# Altium schematic symbol library T5_Turn_Down_For_Watt.SchLib: 71 symbols (part 1 of 3)
Pins are listed as number, name and electrical type; pins without a type are passive.

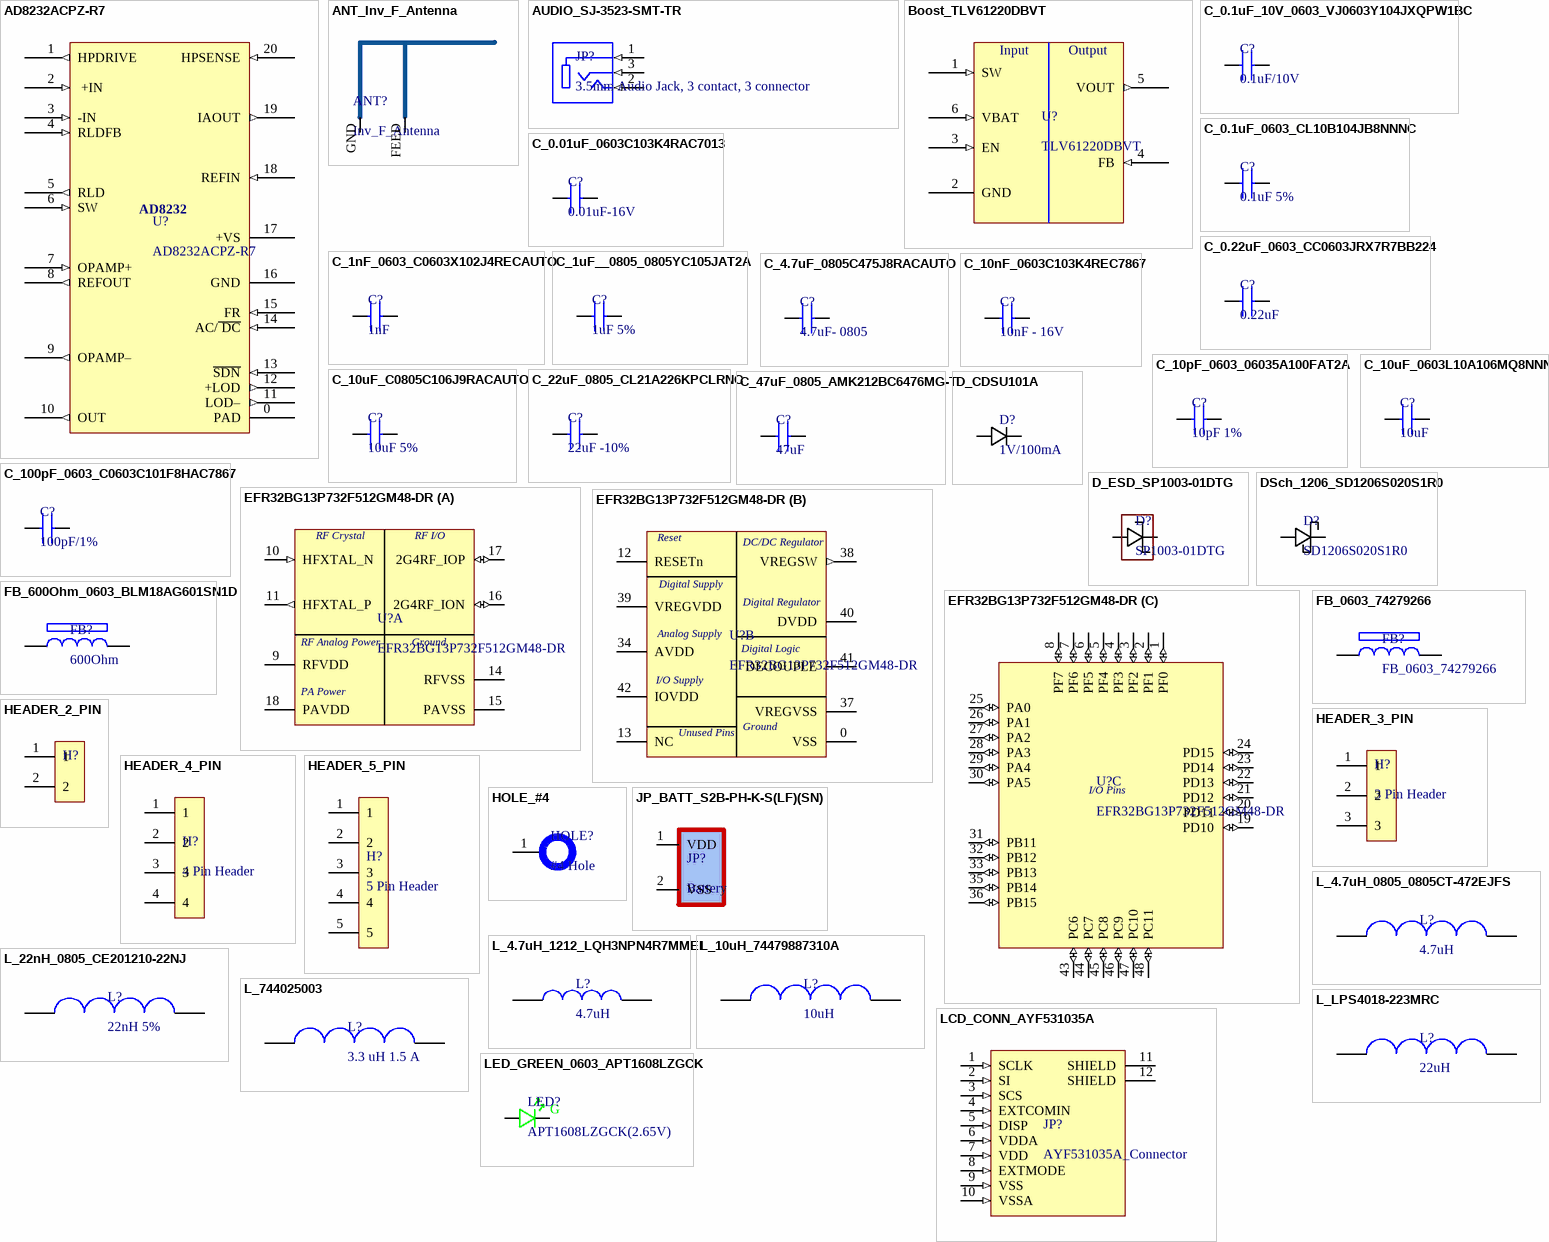
[diagram p0: symbols AD8232ACPZ-R7 to LED_GREEN_0603_APT1608LZGCK]

## AD8232ACPZ-R7
designator U?
IC AFE HEART MONITOR 20LFCSP; Manufacturer: Analog Devices; Common Mode Rejection Ratio: 80dB; Nominal Supply Current: 170uA; Input Offset Voltage (Vos): 3mV; Input Bias Current: 50pA; Power Supply Rejection Ratio (PSRR): 90dB; Min Supply Voltage: 2V; Max Supply Voltage: 3.5V; Supplier 1: Digi-Key; Manufacturer Part Number: AD8232ACPZ-R7; RoHS: Yes; Category: Amplifiers - Op Amps, Buffer, Instrumentation; Stock 1: 1084; Pricing 1: 1=5.17000, 10=4.64200, 25=4.38840, 100=3.80330, 250=3.60824, 500=3.23766 (USD); Mount: Surface Mount; Case/Package: LFCSP EP; Number of Pins: 20; Contact Plating: Tin,Matte; Min Operating Temperature: -40°C; Max Operating Temperature: 85°C; Packaging: Tape and Reel; Package Quantity: 1500; Operating Supply Current: 170uA; Series: -; Supply Current: 170uA; REACH SVHC: No SVHC; Lead Free: Contains Lead; RoHS Compliant: Yes; ComponentLink1URL: https://datasheet.ciiva.com/6579/ad8232-6579751.pdf?src-supplier=Digi-Key; ComponentLink1Description: https://datasheet.ciiva.com/6579/ad8232-6579751.pdf?src-supplier=Digi-Key; ComponentLink2URL: https://datasheet.ciiva.com/6579/ad8232-6579754.pdf?src-supplier=Digi-Key; ComponentLink2Description: https://datasheet.ciiva.com/6579/ad8232-6579754.pdf?src-supplier=Digi-Key; ComponentLink3URL: https://datasheet.ciiva.com/6579/ad8232-6579770.pdf?src-supplier=Digi-Key; ComponentLink3Description: https://datasheet.ciiva.com/6579/ad8232-6579770.pdf?src-supplier=Digi-Key
footprint QFN50P400X400X100-21N (AD8232-ECG Front End 20-LFCSP (4x4))
pins: 0 PAD (power) "Thermal Pad", 1 HPDRIVE (out) "High-Pass Driver Output", 2  +IN (in) "Instrumentation Amplifier Positive Input. +IN is typically connected to the left arm (LA) electrode", 3 -IN (in) "Instrumentation Amplifier Negative Input. −IN is typically connected to the right arm (RA) electrode.", 4 RLDFB (in) "Right Leg Drive Feedback Input.", 5 RLD (out) "Right Leg Drive Output.", 6 SW (in) "Fast Restore Switch Terminal.", 7 OPAMP+ (in) "Operational Amplifier Noninverting Input.", 8 REFOUT (out) "Reference Buffer Output.", 9 OPAMP– (out) "Operational Amplifier Inverting Input.", 10 OUT (out) "Operational Amplifier Output. The fully conditioned heart rate signal is present at this output.", 11 LOD– (out) "Leads Off Comparator Output.", 12  +LOD (out) "Leads Off Comparator Output.", 13 ~{SDN} (in) "Shutdown Control Input.", 14 AC/~{ DC} (in) "Leads Off Mode Control Input.", 15 FR (in) "Fast Restore Control Input", 16 GND (power) "Power Supply Ground.", 17  +VS "Power Supply Terminal.", 18 REFIN (in) "Reference Buffer Input.", 19 IAOUT (out) "Instrumentation Amplifier Output Terminal.", 20 HPSENSE (in) "High-Pass Sense Input for Instrumentation Amplifier."
text: AD8232

## ANT_Inv_F_Antenna
designator ANT?, comment Inv_F_Antenna  (net tie, no BOM)
footprint INV_F_ANTENNA
pins: FEED, GND

## AUDIO_SJ-3523-SMT-TR
designator JP?, comment 3.5mm Audio Jack, 3 contact, 3 connector
3.5 mm, Stereo, Right Angle, Surface Mount (SMT), Audio Jack Connector; Manufacturer: CUI; Manufacturer Part Number: SJ-3523-SMT-TR; Gender: Female; Shielding: Unshielded; Current Rating: 1A; Number of Conductors: 3; Number of Ports: 1; Voltage Rating: 12V; Supplier 1: Digi-Key; RoHS: Yes; Category: Connectors; Stock 1: 96703; Pricing 1: 1=1.010000, 10=0.856000, 25=0.821200, 50=0.803800, 100=0.768800, 250=0.698920, 500=0.629020 (USD); Mount: Surface Mount; Contact Plating: Silver; Contact Material: Copper Alloy; Color: Black; Housing Material: Polyamide; Weight: 0.037038oz; Packaging: Cut Tape; Termination: SMD/SMT; Package Quantity: 1000; Connector Type: Jack; Orientation: Horizontal; Number of Positions: 3; Lead Free: Lead Free; ComponentLink1URL: https://datasheet.ciiva.com/7356/sj-352x-smt-series-7356553.pdf?src-supplier=Digi-Key; ComponentLink1Description: https://datasheet.ciiva.com/7356/sj-352x-smt-series-7356553.pdf?src-supplier=Digi-Key; ComponentLink2URL: https://datasheet.ciiva.com/7356/sj-352x-smt-series-7356569.pdf?src-supplier=Digi-Key; ComponentLink2Description: https://datasheet.ciiva.com/7356/sj-352x-smt-series-7356569.pdf?src-supplier=Digi-Key
footprint 3.5mm_Audio_Jack_SJ-3523-SMT-TR (3.50mm (0.141", 1/8", Mini Plug) - Headphone Phone Jack Stereo (3 Conductor, TRS) Connector Solder)
pins: 1 Sleeve (in), 2 Tip (in), 3 Ring (in)

## Boost_TLV61220DBVT
designator U?, comment TLV61220DBVT
0.7V Low Input Voltage Step-Up Converter with 5uA Iq 6-SOT-23 -40 to 85; Manufacturer: Texas Instruments; Number of Outputs: 1; Output Voltage: 5.5V; Efficiency: 95%; Min Input Voltage: 700mV; Output Current: 220mA; Min Output Voltage: 1.8V; Synchronous Rectifier: Yes; Max Output Current: 200mA; Topology: Boost; Output Type: Adjustable; Output Configuration: Positive; Supplier 1: Digi-Key; Manufacturer Part Number: TLV61220DBVT; RoHS: Yes; Category: Voltage Regulators - Switching; Mount: Surface Mount; Case/Package: SOT-23-6; Number of Pins: 6; Min Operating Temperature: -40°C; Max Operating Temperature: 85°C; Packaging: Tape and Reel; Max Input Voltage: 5.5V; Package Quantity: 250; Max Output Voltage: 5.5V; Quiescent Current: 5uA; Series: -; Length: 3.05mm; Width: 1.75mm; Height: 1.3mm; Depth: 1.75mm; Radiation Hardening: No; Lead Free: Lead Free; RoHS Compliant: Yes; ComponentLink1URL: https://datasheet.ciiva.com/12221/slvsb53-118569-12221283.pdf?src-supplier=Mouser; ComponentLink1Description: https://datasheet.ciiva.com/12221/slvsb53-118569-12221283.pdf?src-supplier=Mouser; ComponentLink2URL: https://datasheet.ciiva.com/14273/tlv61220-14273200.pdf?src-supplier=Avnet; ComponentLink2Description: https://datasheet.ciiva.com/14273/tlv61220-14273200.pdf?src-supplier=Avnet; ComponentLink3URL: https://datasheet.ciiva.com/6604/tlv61220-6604104.pdf?src-supplier=Digi-Key; ComponentLink3Description: https://datasheet.ciiva.com/6604/tlv61220-6604104.pdf?src-supplier=Digi-Key; ComponentLink4URL: https://datasheet.ciiva.com/29894/tlv61220-29894792.pdf?src-supplier=Avnet; ComponentLink4Description: https://datasheet.ciiva.com/29894/tlv61220-29894792.pdf?src-supplier=Avnet
footprint SOT95P280X145-6N (SOT23, 6-Leads, Body 2.90x2.80mm, Pitch 0.95mm, IPC Medium Density)
pins: 1 SW (in) "Boost and rectifying switch input", 2 GND (power) "IC ground connection for logic and power", 3 EN (in) "Enable input (VBAT enabled, GND disabled)", 4 FB (in) "Voltage feedback for programming the output voltage", 5 VOUT (out) "Boost converter output", 6 VBAT (in) "Supply voltage"
text: Input; Output

## C_0.1uF_10V_0603_VJ0603Y104JXQPW1BC
designator C?, comment 0.1uF/10V
0603 0.1 uF 10 V ±5 % Tolerance X7R SMT Multilayer Ceramic Chip Capacitor; Manufacturer: Vishay Vitramon; Manufacturer Part Number: VJ0603Y104JXQPW1BC; Dielectric Material: Tantalum; Capacitance: 100nF; Tolerance: 5%; Voltage Rating (DC): 10V; Supplier 1: Mouser; RoHS: Yes; Category: Ceramic Capacitors; Stock 1: 24686; Pricing 1: 1=0.19000, 10=0.07900, 50=0.07900, 100=0.06700, 1000=0.04100, 10000=0.03400 (USD); Mount: Surface Mount; Case/Package: 0603; Case Code (Imperial): 0603; Case Code (Metric): 1608; Min Operating Temperature: -55°C; Max Operating Temperature: 125°C; Packaging: Tape and Reel; Package Quantity: 15000; Dielectric: X7R; Termination: SMD/SMT; Series: VJ W1BC; Construction: Flat; Length: 1.6mm; Width: 0.8mm; Height: 0.95mm; Depth: 0.8mm; Lead Free: Lead Free; RoHS Compliant: Yes; ComponentLink1URL: http://www.farnell.com/datasheets/2620235.pdf?src-supplier=Farnell; ComponentLink1Description: http://www.farnell.com/datasheets/2620235.pdf?src-supplier=Farnell; ComponentLink2URL: http://www.mouser.com/ds/2/427/vjw1bcbascomseries-223529.pdf?src-supplier=Mouser; ComponentLink2Description: http://www.mouser.com/ds/2/427/vjw1bcbascomseries-223529.pdf?src-supplier=Mouser; ComponentLink3URL: https://www.vishay.com/docs/28548/vjw1bcbascomseries.pdf?src-supplier=Digi-Key; ComponentLink3Description: https://www.vishay.com/docs/28548/vjw1bcbascomseries.pdf?src-supplier=Digi-Key; ComponentLink4URL: http://www.vishay.com/docs/28548/vjw1bcbascomseries.pdf?src-supplier=Avnet; ComponentLink4Description: http://www.vishay.com/docs/28548/vjw1bcbascomseries.pdf?src-supplier=Avnet; ComponentLink5URL: http://www.farnell.com/datasheets/2620235.pdf?src-supplier=Element14; ComponentLink5Description: http://www.farnell.com/datasheets/2620235.pdf?src-supplier=Element14; ComponentLink6URL: http://www.farnell.com/datasheets/2620235.pdf?src-supplier=Newark; ComponentLink6Description: http://www.farnell.com/datasheets/2620235.pdf?src-supplier=Newark
footprint CAP_0603_1.4mm
pins: 1, 2

## C_0.1uF_0603_CL10B104JB8NNNC
designator C?, comment 0.1uF 5%
CL10 Series 0.1 uF 50 V ±5 % Tolerance X7R SMT Multilayer Ceramic Capacitor; Manufacturer: Samsung; Manufacturer Part Number: CL10B104JB8NNNC; Capacitance: 100nF; Voltage Rating: 50V; Supplier 1: Digi-Key; RoHS: Yes; Category: Ceramic Capacitors; Stock 1: 1126013; Pricing 1: 1=0.10000, 10=0.03900, 50=0.02120, 100=0.01740, 500=0.01240, 1000=0.00975 (USD); Mount: Surface Mount; Case/Package: 0603; Case Code (Metric): 1608; Case Code (Imperial): 0603; Material: Ceramic; Contact Plating: Tin; Min Operating Temperature: -55°C; Max Operating Temperature: 125°C; Tolerance: 5%; Packaging: Tape and Reel; Package Quantity: 1; Dielectric: X7R; Voltage: 50V; Series: CL; Construction: Flat; Length: 1.6mm; Width: 0.031inch; Height: 0.8mm; Thickness: 0.035inch; Depth: 0.8mm; Radiation Hardening: No; RoHS Compliant: Yes; ComponentLink1URL: https://datasheet.ciiva.com/25793/cl10b104jb8nnnc-25793394.pdf?src-supplier=Digi-Key; ComponentLink1Description: https://datasheet.ciiva.com/25793/cl10b104jb8nnnc-25793394.pdf?src-supplier=Digi-Key; ComponentLink2URL: https://datasheet.ciiva.com/16498/cl10b104jb8nnnc-16498485.pdf?src-supplier=Future+Electronics; ComponentLink2Description: https://datasheet.ciiva.com/16498/cl10b104jb8nnnc-16498485.pdf?src-supplier=Future+Electronics; ComponentLink3URL: https://datasheet.ciiva.com/26838/getdatasheetpartid-359321-26838402.pdf?src-supplier=Verical; ComponentLink3Description: https://datasheet.ciiva.com/26838/getdatasheetpartid-359321-26838402.pdf?src-supplier=Verical; ComponentLink4URL: https://datasheet.ciiva.com/29199/456613-da-01-en-vs-kondensator-0603-29199008.pdf?src-supplier=Conrad; ComponentLink4Description: https://datasheet.ciiva.com/29199/456613-da-01-en-vs-kondensator-0603-29199008.pdf?src-supplier=Conrad
footprint CAP_0603_1.4mm
pins: 1, 2

## C_0.01uF_0603C103K4RAC7013
designator C?, comment 0.01uF-16V
0603 .01UF 10% X7R 1; Manufacturer: KEMET; Manufacturer Part Number: C0603C103K4RAC7013; Dielectric Material: Ceramic; Capacitance: 10nF; Voltage Rating (DC): 16V; Supplier 1: Digi-Key; RoHS: Yes; Category: Ceramic Capacitors; Stock 1: 31105; Pricing 1: 1=0.11000, 10=0.08000, 50=0.04560, 100=0.03780, 500=0.02650, 1000=0.02193 (USD); Mount: Surface Mount; Case/Package: 0603; Min Operating Temperature: -55°C; Max Operating Temperature: 125°C; Tolerance: 10%; Dielectric: X7R; Construction: Flat; Length: 1.6mm; Height: 0.8mm; Depth: 0.8mm; Radiation Hardening: No; RoHS Compliant: Yes; ComponentLink1URL: http://capacitoredge.kemet.com/capedge2/DataSheet?pn=C0603C103K4RAC7013&src-supplier=Avnet; ComponentLink1Description: http://capacitoredge.kemet.com/capedge2/DataSheet?pn=C0603C103K4RAC7013&src-supplier=Avnet; ComponentLink2URL: https://api.kemet.com/component-edge/download/datasheet/C0603C103K4RAC7013.pdf?src-supplier=Digi-Key; ComponentLink2Description: https://api.kemet.com/component-edge/download/datasheet/C0603C103K4RAC7013.pdf?src-supplier=Digi-Key
footprint CAP_0603_1.4mm
pins: 1, 2

## C_0.22uF_0603_CC0603JRX7R7BB224
designator C?, comment 0.22uF
0603 0.22 uF 16 V ±5% Tolerance X7R Multilayer Ceramic Capacitor; Manufacturer: Yageo; Manufacturer Part Number: CC0603JRX7R7BB224; Capacitance: 220nF; Voltage Rating (DC): 16V; Supplier 1: Digi-Key; RoHS: Yes; Category: Ceramic Capacitors; Stock 1: 87620; Pricing 1: 1=0.13000, 10=0.09000, 50=0.05120, 100=0.04240, 500=0.02972, 1000=0.02461 (USD); Mount: Surface Mount; Case/Package: 0603; Case Code (Imperial): 0603; Case Code (Metric): 1608; Weight: 7.1E-05oz; Min Operating Temperature: -55°C; Max Operating Temperature: 125°C; Tolerance: 5%; Packaging: Tape and Reel; Dielectric: X7R; Voltage Rating: 16V; Termination: SMD/SMT; Resistor Type: Ceramic; Series: CC; Length: 0.063inch; Width: 0.031inch; Thickness: 0.035inch; Depth: 0.8mm; Lead Free: Lead Free; Halogen Free: Halogen Free; RoHS Compliant: Yes; ComponentLink1URL: http://www.mouser.com/ds/2/447/Yageo_UPY-GP_NP0_16V-to-50V_9-358835.pdf?src-supplier=Mouser; ComponentLink1Description: http://www.mouser.com/ds/2/447/Yageo_UPY-GP_NP0_16V-to-50V_9-358835.pdf?src-supplier=Mouser; ComponentLink2URL: http://www.yageo.com/exep/pages/download/literatures/ProductSelectionGuide%202014_Final_2.pdf?src-supplier=Digi-Key; ComponentLink2Description: http://www.yageo.com/exep/pages/download/literatures/ProductSelectionGuide%202014_Final_2.pdf?src-supplier=Digi-Key; ComponentLink3URL: http://www.yageo.com/documents/recent/UPY-GPHC_X7R_6.3V-to-50V_18.pdf?src-supplier=Digi-Key; ComponentLink3Description: http://www.yageo.com/documents/recent/UPY-GPHC_X7R_6.3V-to-50V_18.pdf?src-supplier=Digi-Key
footprint CAP_0603_1.4mm
pins: 1, 2

## C_1nF_0603_C0603X102J4RECAUTO
designator C?, comment 1nF
Cap Ceramic 0.001uF 16V X7R 5% Pad SMD 0603 Flexible Termination 125C Automotive T/R; Manufacturer: KEMET; Manufacturer Part Number: C0603X102J4RECAUTO; Supplier 1: Digi-Key; RoHS: Yes; Category: Ceramic Capacitors; Stock 1: 50524; Pricing 1: 1=0.20000, 10=0.13500, 50=0.08100, 100=0.06830, 500=0.04674, 1000=0.04135 (USD); Mount: Surface Mount; Case/Package: 0603; Case Code (Imperial): 0603; Case Code (Metric): 1608; Min Operating Temperature: -55°C; Max Operating Temperature: 125°C; Features: Soft Termination; Packaging: Tape and Reel; Capacitance: 1nF; Tolerance: 5%; Voltage Rating: 16V; Ratings: AEC-Q200; RoHS Compliant: Yes; ComponentLink1URL: http://www.farnell.com/datasheets/2743686.pdf?src-supplier=Farnell; ComponentLink1Description: http://www.farnell.com/datasheets/2743686.pdf?src-supplier=Farnell; ComponentLink2URL: https://api.kemet.com/component-edge/download/datasheet/C0603X102J4RECAUTO.pdf?src-supplier=Digi-Key; ComponentLink2Description: https://api.kemet.com/component-edge/download/datasheet/C0603X102J4RECAUTO.pdf?src-supplier=Digi-Key; ComponentLink3URL: http://www.farnell.com/datasheets/2743686.pdf?src-supplier=Newark; ComponentLink3Description: http://www.farnell.com/datasheets/2743686.pdf?src-supplier=Newark
footprint CAP_0603_KEMET (Chip Capacitor, 2-Leads, Body 1.60x0.80mm, IPC Medium Density)
pins: 1, 2

## C_1uF__0805_0805YC105JAT2A
designator C?, comment 1uF 5%
Cap Ceramic 1uF 16V X7R 5% SMD 0805 125°C Embossed T/R; Manufacturer: Kyocera AVX; Manufacturer Part Number: 0805YC105JAT2A; Supplier 1: Digi-Key; RoHS: Yes; Category: Ceramic Capacitors; Stock 1: 30780; Pricing 1: 1=0.25000, 10=0.17300, 50=0.11560, 100=0.09820, 500=0.06932, 1000=0.06066 (USD); Mount: Surface Mount; Case/Package: 0805; Number of Pins: 2; Case Code (Metric): 2012; Case Code (Imperial): 0805; Weight: 0.000194oz; Min Operating Temperature: -55°C; Max Operating Temperature: 125°C; Tolerance: 5%; Capacitance: 1uF; Packaging: Tape and Reel; Package Quantity: 2000; Voltage Rating: 16V; Voltage Rating (DC): 16V; Dielectric: X7R; Termination: SMD/SMT; Series: -; Construction: Flat; Length: 2.01mm; Width: 0.049inch; Height: 1.4mm; Thickness: 0.055inch; Depth: 1.25mm; Radiation Hardening: No; RoHS Compliant: Yes; ComponentLink1URL: https://datasheet.ciiva.com/214/cx7r-214205.pdf?src-supplier=Digi-Key; ComponentLink1Description: https://datasheet.ciiva.com/214/cx7r-214205.pdf?src-supplier=Digi-Key; ComponentLink2URL: https://datasheet.ciiva.com/11531/cx7r-11531741.pdf?src-supplier=Avnet; ComponentLink2Description: https://datasheet.ciiva.com/11531/cx7r-11531741.pdf?src-supplier=Avnet; ComponentLink3URL: https://datasheet.ciiva.com/5427/cx7r-218113-5427487.pdf?src-supplier=Mouser; ComponentLink3Description: https://datasheet.ciiva.com/5427/cx7r-218113-5427487.pdf?src-supplier=Mouser
footprint CAP_0805_2mm (Chip Capacitor, 2-Leads, Body 2.00x1.25mm, IPC Medium Density)
pins: 1, 2

## C_4.7uF_0805C475J8RACAUTO
designator C?, comment 4.7uF- 0805
Cap Ceramic 4.7uF 10V X7R 5% Pad SMD 0805 125C Automotive T/R; Manufacturer: KEMET; Manufacturer Part Number: C0805C475J8RACAUTO; Supplier 1: Digi-Key; RoHS: Yes; Category: Ceramic Capacitors; Stock 1: 10101; Pricing 1: 1=0.56000, 10=0.39300, 50=0.29680, 100=0.25850, 500=0.19150, 1000=0.16277 (USD); Mount: Surface Mount; Case/Package: 0805; Case Code (Imperial): 0805; Case Code (Metric): 2012; Min Operating Temperature: -55°C; Max Operating Temperature: 125°C; Packaging: Tape and Reel; Capacitance: 4.7uF; Tolerance: 5%; Voltage Rating: 10V; Ratings: AEC-Q200; RoHS Compliant: Yes; ComponentLink1URL: http://www.farnell.com/datasheets/2741388.pdf?src-supplier=Farnell; ComponentLink1Description: http://www.farnell.com/datasheets/2741388.pdf?src-supplier=Farnell; ComponentLink2URL: https://api.kemet.com/component-edge/download/datasheet/C0805C475J8RACAUTO.pdf?src-supplier=Digi-Key; ComponentLink2Description: https://api.kemet.com/component-edge/download/datasheet/C0805C475J8RACAUTO.pdf?src-supplier=Digi-Key; ComponentLink3URL: http://www.farnell.com/datasheets/2741388.pdf?src-supplier=Newark; ComponentLink3Description: http://www.farnell.com/datasheets/2741388.pdf?src-supplier=Newark
footprint CAP_0805_2mm (Chip Capacitor, 2-Leads, Body 2.00x1.25mm, IPC Medium Density)
pins: 1, 2

## C_10nF_0603C103K4REC7867
designator C?, comment 10nF - 16V
Cap Cer 0603 10NF 16V X7R 10%; Manufacturer: KEMET; Manufacturer Part Number: C0603C103K4REC7867; Supplier 1: Digi-Key; RoHS: No; Category: Ceramic Capacitors; Stock 1: 38391; Pricing 1: 1=0.11000, 10=0.08100, 50=0.04420, 100=0.03610, 500=0.02580, 1000=0.02028 (USD)
footprint CAP_0603_1.4mm
pins: 1, 2

## C_10pF_0603_06035A100FAT2A
designator C?, comment 10pF 1%
0603 10 pF 50 V ±1% Tolerance C0G/NP0 Surface Mount Multilayer Ceramic Capacitor; Manufacturer: Kyocera AVX; Manufacturer Part Number: 06035A100FAT2A; Voltage Rating: 50V; Dielectric: C0G; Supplier 1: Digi-Key; RoHS: Yes; Category: Ceramic Capacitors; Stock 1: 567324; Pricing 1: 1=0.20000, 10=0.13900, 50=0.07900, 100=0.06550, 500=0.04590, 1000=0.03800 (USD); Mount: Surface Mount; Case/Package: 0603; Case Code (Imperial): 0603; Case Code (Metric): 1608; Min Operating Temperature: -55°C; Max Operating Temperature: 125°C; Capacitance: 10pF; Tolerance: 1%; Packaging: Tape and Reel; Package Quantity: 4000; Voltage Rating (DC): 50V; Termination: SMD/SMT; Series: 0603; Construction: Flat; Length: 1.6mm; Width: 0.81mm; Thickness: 0.035inch; Depth: 0.81mm; Radiation Hardening: No; REACH SVHC: No SVHC; Lead Free: Lead Free; RoHS Compliant: Yes; ComponentLink1URL: https://datasheet.ciiva.com/209/ccog-209663.pdf?src-supplier=Digi-Key; ComponentLink1Description: https://datasheet.ciiva.com/209/ccog-209663.pdf?src-supplier=Digi-Key; ComponentLink2URL: https://datasheet.ciiva.com/11519/ccog-11519384.pdf?src-supplier=Avnet; ComponentLink2Description: https://datasheet.ciiva.com/11519/ccog-11519384.pdf?src-supplier=Avnet; ComponentLink3URL: https://datasheet.ciiva.com/16287/ccog-16287721.pdf?src-supplier=Future+Electronics; ComponentLink3Description: https://datasheet.ciiva.com/16287/ccog-16287721.pdf?src-supplier=Future+Electronics; ComponentLink4URL: https://datasheet.ciiva.com/28611/1796416-28611500.pdf?src-supplier=Element14; ComponentLink4Description: https://datasheet.ciiva.com/28611/1796416-28611500.pdf?src-supplier=Element14
footprint CAP_0603_1.4mm
pins: 1, 2

## C_10uF_0603L10A106MQ8NNNC
designator C?, comment 10uF
Ceramic capacitor SMD-0603 10uF /6.3V X5R# M +-20%, Samsung, RoHS; Manufacturer Part Number: CL10A106MQ8NNNC; Tolerance: 20%; Voltage Rating: 6.3V; Dielectric: X5R; Supplier 1: Digi-Key; Manufacturer: Samsung; RoHS: Yes; Category: Ceramic Capacitors; Stock 1: 4482589; Pricing 1: 1=0.11000, 10=0.08300, 50=0.04520, 100=0.03690, 500=0.02638, 1000=0.02072 (USD); Mount: Surface Mount; Case/Package: 0603; Case Code (Metric): 1608; Case Code (Imperial): 0603; Contact Plating: Tin; Min Operating Temperature: -55°C; Max Operating Temperature: 85°C; Package Quantity: 1; Packaging: Tape and Reel; Capacitance: 10uF; Voltage: 6.3V; Series: CL; Construction: Flat; Length: 1.6mm; Width: 0.031inch; Height: 0.8mm; Thickness: 0.035inch; Depth: 0.8mm; Radiation Hardening: No; RoHS Compliant: Yes; ComponentLink1URL: https://datasheet.ciiva.com/25798/cl10a106mq8nnnc-25798320.pdf?src-supplier=Digi-Key; ComponentLink1Description: https://datasheet.ciiva.com/25798/cl10a106mq8nnnc-25798320.pdf?src-supplier=Digi-Key; ComponentLink2URL: https://datasheet.ciiva.com/26838/getdatasheetpartid-357557-26838347.pdf?src-supplier=Verical; ComponentLink2Description: https://datasheet.ciiva.com/26838/getdatasheetpartid-357557-26838347.pdf?src-supplier=Verical; ComponentLink3URL: https://datasheet.ciiva.com/16437/cl05b104kq5nnnc-16437327.pdf?src-supplier=Future+Electronics; ComponentLink3Description: https://datasheet.ciiva.com/16437/cl05b104kq5nnnc-16437327.pdf?src-supplier=Future+Electronics
footprint CAP_0603_1.4mm
pins: 1, 2

## C_10uF_C0805C106J9RACAUTO
designator C?, comment 10uF 5%
Cap Ceramic 10uF 6.3V X7R 5% Pad SMD 0805 125C Automotive T/R; Manufacturer: KEMET; Manufacturer Part Number: C0805C106K8RAC7800; Supplier 1: Digi-Key; RoHS: Yes; Category: Ceramic Capacitors; Stock 1: 3043; Pricing 1: 1=0.85000, 10=0.62500, 50=0.50020, 100=0.42880, 500=0.33948, 1000=0.28587 (USD); Mount: Surface Mount; Case/Package: 0805; Case Code (Imperial): 0805; Case Code (Metric): 2012; Min Operating Temperature: -55°C; Max Operating Temperature: 125°C; Packaging: Tape and Reel; Capacitance: 10uF; Tolerance: 5%; Voltage Rating: 6.3V; Ratings: AEC-Q200; RoHS Compliant: Yes; ComponentLink1URL: http://www.farnell.com/datasheets/2741400.pdf?src-supplier=Farnell; ComponentLink1Description: http://www.farnell.com/datasheets/2741400.pdf?src-supplier=Farnell; ComponentLink2URL: https://api.kemet.com/component-edge/download/datasheet/C0805C106J9RACAUTO.pdf?src-supplier=Digi-Key; ComponentLink2Description: https://api.kemet.com/component-edge/download/datasheet/C0805C106J9RACAUTO.pdf?src-supplier=Digi-Key; ComponentLink3URL: http://www.farnell.com/datasheets/2741400.pdf?src-supplier=Newark; ComponentLink3Description: http://www.farnell.com/datasheets/2741400.pdf?src-supplier=Newark
footprint CAP_0805_2mm (Chip Capacitor, 2-Leads, Body 2.00x1.25mm, IPC Medium Density)
pins: 1, 2

## C_22uF_0805_CL21A226KPCLRNC
designator C?, comment 22uF -10%
Cap Ceramic 22uF 10V X5R 10% SMD 0805 85C T/R; Manufacturer: Samsung; Manufacturer Part Number: CL21A226KPCLRNC; Supplier 1: Digi-Key; RoHS: Yes; Category: Ceramic Capacitors; Stock 1: 509229; Pricing 1: 1=0.35000, 10=0.23800, 50=0.15840, 100=0.13460, 500=0.09502, 1000=0.08314 (USD); Mount: Surface Mount; Case/Package: 0805; Case Code (Metric): 2012; Case Code (Imperial): 0805; Min Operating Temperature: -55°C; Max Operating Temperature: 85°C; Packaging: Tape and Reel; Tolerance: 10%; Capacitance: 22uF; Dielectric: X5R; Voltage Rating: 10V; Length: 2mm; Width: 0.049inch; Thickness: 0.037inch; Depth: 1.25mm; Radiation Hardening: No; Lead Free: Lead Free; RoHS Compliant: Yes; ComponentLink1URL: https://datasheet.ciiva.com/26936/getdatasheetpartid-781772-26936902.pdf?src-supplier=Verical; ComponentLink1Description: https://datasheet.ciiva.com/26936/getdatasheetpartid-781772-26936902.pdf?src-supplier=Verical
footprint CAP_0805_2mm (Chip Capacitor, 2-Leads, Body 2.00x1.25mm, IPC Medium Density)
pins: 1, 2

## C_47uF_0805_AMK212BC6476MG-T
designator C?, comment 47uF
Multilayer Ceramic Capacitors (High dielectric type), 4V, 47 uF, ± 20 %, 0805, X6S, RoHS; Manufacturer: Taiyo Yuden; Manufacturer Part Number: AMK212BC6476MG-T; Tolerance: 20%; Supplier 1: Digi-Key; RoHS: Yes; Category: Ceramic Capacitors; Stock 1: 1412248; Pricing 1: 1=0.47000, 10=0.33000, 50=0.23080, 100=0.19790, 500=0.14840, 1000=0.12531 (USD); Mount: Surface Mount; Case/Package: 0805; Case Code (Metric): 2012; Case Code (Imperial): 0805; Min Operating Temperature: -55°C; Max Operating Temperature: 105°C; Capacitance: 47uF; Package Quantity: 1; Packaging: Tape and Reel; Voltage Rating: 4V; Voltage Rating (DC): 4V; Dielectric: X6S; Termination: SMD/SMT; Resistor Type: Ceramic; Length: 2mm; Width: 0.049inch; Height: 1.25mm; Thickness: 0.053inch; Halogen Free: Halogen Free; RoHS Compliant: Yes; ComponentLink1URL: https://datasheet.ciiva.com/24373/amk212bc6476mg-t-24373291.pdf?src-supplier=Onlinecomponents.com; ComponentLink1Description: https://datasheet.ciiva.com/24373/amk212bc6476mg-t-24373291.pdf?src-supplier=Onlinecomponents.com; ComponentLink2URL: https://datasheet.ciiva.com/30098/147amk212bc6476mg-t-30098657.pdf?src-supplier=Onlinecomponents.com; ComponentLink2Description: https://datasheet.ciiva.com/30098/147amk212bc6476mg-t-30098657.pdf?src-supplier=Onlinecomponents.com; ComponentLink3URL: https://datasheet.ciiva.com/18697/mlcc-all-e-18697817.pdf?src-supplier=Digi-Key; ComponentLink3Description: https://datasheet.ciiva.com/18697/mlcc-all-e-18697817.pdf?src-supplier=Digi-Key; ComponentLink4URL: https://datasheet.ciiva.com/18697/mlcc-all-e-18697816.pdf?src-supplier=Digi-Key; ComponentLink4Description: https://datasheet.ciiva.com/18697/mlcc-all-e-18697816.pdf?src-supplier=Digi-Key; ComponentLink5URL: https://datasheet.ciiva.com/18697/mlcc-all-e-18697818.pdf?src-supplier=Digi-Key; ComponentLink5Description: https://datasheet.ciiva.com/18697/mlcc-all-e-18697818.pdf?src-supplier=Digi-Key
footprint CAP_0805_2mm (Chip Capacitor, 2-Leads, Body 2.00x1.25mm, IPC Medium Density)
pins: 1, 2

## C_100pF_0603_C0603C101F8HAC7867
designator C?, comment 100pF/1%
Cap Cer 0603 100PF 10V Ultra Sta; Manufacturer: KEMET; Manufacturer Part Number: C0603C101F8HAC7867; Supplier 1: Digi-Key; RoHS: No; Category: Ceramic Capacitors; Stock 1: 10446; Pricing 1: 1=0.15000, 10=0.10400, 50=0.05880, 100=0.04880, 500=0.03420, 1000=0.02831 (USD)
footprint CAP_0603_KEMET (Chip Capacitor, 2-Leads, Body 1.60x0.80mm, IPC Medium Density)
pins: 1, 2

## D_CDSU101A
designator D?, comment 1V/100mA
Rectifier Diode Switching 90V 0.1A 4ns 2-Pin SOD-523F T/R / DIODE GEN PURP 80V 100MA 0603; Manufacturer: Comchip; Manufacturer Part Number: CDSU101A; Max Surge Current: 1A; Max Power Dissipation: 150mW; Max Reverse Current: 50nA; Polarity: Standard; Capacitance: 3pF; Supplier 1: Digi-Key; RoHS: Yes; Category: Rectifier Diodes; Stock 1: 1190614; Pricing 1: 1=0.32000, 10=0.25800, 100=0.13680, 500=0.09000, 1000=0.06120, 2000=0.05520 (USD); Mount: Surface Mount; Case/Package: SMD/SMT; Recovery Time: 4ns; Packaging: Tape and Reel; Package Quantity: 1; Forward Current: 100mA; Average Rectified Current: 100mA; Reverse Recovery Time: 4ns; Voltage Rating (DC): 80V; Current Rating: 100mA; Output Current: 100mA; Max Reverse Voltage (DC): 80V; Series: -; Lead Free: Lead Free; RoHS Compliant: Yes; ComponentLink1URL: https://datasheet.ciiva.com/911/cdsu101a-reva371622-911831.pdf?src-supplier=Digi-Key; ComponentLink1Description: https://datasheet.ciiva.com/911/cdsu101a-reva371622-911831.pdf?src-supplier=Digi-Key; ComponentLink2URL: https://datasheet.ciiva.com/4435/cdsu101a-reva371622-27496-4435204.pdf?src-supplier=Mouser; ComponentLink2Description: https://datasheet.ciiva.com/4435/cdsu101a-reva371622-27496-4435204.pdf?src-supplier=Mouser; ComponentLink3URL: https://datasheet.ciiva.com/911/cdsu101a-reva371622-911832.pdf?src-supplier=Digi-Key; ComponentLink3Description: https://datasheet.ciiva.com/911/cdsu101a-reva371622-911832.pdf?src-supplier=Digi-Key; ComponentLink4URL: https://datasheet.ciiva.com/911/cdsu101a-reva371622-911833.pdf?src-supplier=Digi-Key; ComponentLink4Description: https://datasheet.ciiva.com/911/cdsu101a-reva371622-911833.pdf?src-supplier=Digi-Key
footprint SODFL170X85-2N (SODFL, 2-Leads, Body 0.90x1.70mm, IPC Medium Density)
pins: 1, 2

## D_ESD_SP1003-01DTG
designator D?, comment SP1003-01DTG
TVS DIODE 5VWM 12VC SOD723; Manufacturer: Littelfuse; Direction: Unidirectional; Reverse Breakdown Voltage: 6V; Operating Supply Voltage: 5V; Capacitance: 30pF; Max Surge Current: 7A; Number of Channels: 1; Clamping Voltage: 12V; Power Line Protection: No; Polarity: Bidirectional,Unidirectional; Test Current: 1mA; Leakage Current: 100nA; Diode Type: ZENER; Clamping Voltage-Max: 12.5V; Supplier 1: Digi-Key; Manufacturer Part Number: SP1003-01DTG; RoHS: Yes; Category: TVS Diodes; Stock 1: 280051; Pricing 1: 1=0.54000, 10=0.44100, 100=0.30000, 500=0.22504, 1000=0.16878, 2000=0.15471 (USD); Mount: Surface Mount; Number of Pins: 2; Min Operating Temperature: -40°C; Max Operating Temperature: 85°C; Packaging: Tape and Reel; Package Quantity: 8000; Number of Unidirectional Channels: 1; Reverse Standoff Voltage: 5V; Min Breakdown Voltage: 6V; Breakdown Voltage: 5V; Termination: SMD/SMT; Number of Elements: 1; Peak Pulse Current: 7A; Resistor Type: Zener; Series: SP1003, SPA®; REACH SVHC: No SVHC; Lead Free: Lead Free; RoHS Compliant: Yes; ComponentLink1URL: https://datasheet.ciiva.com/8062/littelfuse-spa-sp1003-series-8062432.pdf?src-supplier=Element14; ComponentLink1Description: https://datasheet.ciiva.com/8062/littelfuse-spa-sp1003-series-8062432.pdf?src-supplier=Element14; ComponentLink2URL: https://datasheet.ciiva.com/5771/littelfuse-spa-sp1003-series-5771141.pdf?src-supplier=Farnell; ComponentLink2Description: https://datasheet.ciiva.com/5771/littelfuse-spa-sp1003-series-5771141.pdf?src-supplier=Farnell; ComponentLink3URL: https://datasheet.ciiva.com/330/littelfuse-tvs-diode-array-sp1003-datasheet-pdf-330692.pdf?src-supplier=Digi-Key; ComponentLink3Description: https://datasheet.ciiva.com/330/littelfuse-tvs-diode-array-sp1003-datasheet-pdf-330692.pdf?src-supplier=Digi-Key; ComponentLink4URL: https://datasheet.ciiva.com/330/littelfuse-tvs-diode-array-sp1003-datasheet-pdf-330693.pdf?src-supplier=Digi-Key; ComponentLink4Description: https://datasheet.ciiva.com/330/littelfuse-tvs-diode-array-sp1003-datasheet-pdf-330693.pdf?src-supplier=Digi-Key; ComponentLink5URL: https://datasheet.ciiva.com/330/littelfuse-tvs-diode-array-sp1003-datasheet-pdf-330691.pdf?src-supplier=Digi-Key; ComponentLink5Description: https://datasheet.ciiva.com/330/littelfuse-tvs-diode-array-sp1003-datasheet-pdf-330691.pdf?src-supplier=Digi-Key; ComponentLink6URL: https://datasheet.ciiva.com/16216/littelfuse-spa-sp1003-series-16216345.pdf?src-supplier=Future+Electronics; ComponentLink6Description: https://datasheet.ciiva.com/16216/littelfuse-spa-sp1003-series-16216345.pdf?src-supplier=Future+Electronics
footprint ESD_DIODE_LITTELFUSE (SODFL, 2-Leads, Body 0.60x1.40mm, IPC Medium Density)
pins: 1, 2

## DSch_1206_SD1206S020S1R0
designator D?, comment SD1206S020S1R0
AVX         SD1206S020S1R0             Schottky Rectifier, Single, 20 V, 1 A, SOD-123, 2 Pins, 500 mV; Manufacturer: Kyocera AVX; Forward Current: 1A; Max Reverse Current: 200nA; Max Surge Current: 20A; Forward Voltage: 500mV; Max Reverse Leakage Current: 200uA; Max Repetitive Reverse Voltage (Vrrm): 20V; Supplier 1: Digi-Key; Manufacturer Part Number: SD1206S020S1R0; RoHS: Yes; Category: Rectifier Diodes; Stock 1: 18902; Pricing 1: 1=0.42000, 10=0.33700, 100=0.22940, 500=0.17206, 1000=0.12904 (USD); Mount: Surface Mount; Case/Package: 1206; Number of Pins: 2; Case Code (Metric): 3216; Case Code (Imperial): 1206; Min Operating Temperature: -55°C; Max Operating Temperature: 125°C; Packaging: Tape and Reel; Package Quantity: 1; Average Rectified Current: 1A; Max Forward Surge Current (Ifsm): 20A; Peak Non-Repetitive Surge Current: 20A; Element Configuration: Single; Max Reverse Voltage (DC): 20V; Series: -; Radiation Hardening: No; REACH SVHC: No SVHC; RoHS Compliant: Yes; ComponentLink1URL: https://datasheet.ciiva.com/13084/schottky-221155-13084173.pdf?src-supplier=Mouser; ComponentLink1Description: https://datasheet.ciiva.com/13084/schottky-221155-13084173.pdf?src-supplier=Mouser; ComponentLink2URL: https://datasheet.ciiva.com/6367/schottky-6367997.pdf?src-supplier=Digi-Key; ComponentLink2Description: https://datasheet.ciiva.com/6367/schottky-6367997.pdf?src-supplier=Digi-Key; ComponentLink3URL: https://datasheet.ciiva.com/6367/schottky-6367998.pdf?src-supplier=Digi-Key; ComponentLink3Description: https://datasheet.ciiva.com/6367/schottky-6367998.pdf?src-supplier=Digi-Key; ComponentLink4URL: https://datasheet.ciiva.com/46411/1796790-46411382.pdf?src-supplier=Element14; ComponentLink4Description: https://datasheet.ciiva.com/46411/1796790-46411382.pdf?src-supplier=Element14; ComponentLink5URL: https://datasheet.ciiva.com/46411/1796790-46411383.pdf?src-supplier=Element14; ComponentLink5Description: https://datasheet.ciiva.com/46411/1796790-46411383.pdf?src-supplier=Element14
footprint DIODE_1206_KYOCERA (Chip Diode, 2-Leads, Body 3.40x1.90mm, IPC Medium Density)
pins: A, C

## EFR32BG13P732F512GM48-DR
designator U?
EFR32BG13 Blue Gecko Bluetooth® Low / Energy SoC Family; Manufacturer: Silicon Labs; Supplier 1: Digi-Key; Manufacturer Part Number: EFR32BG13P732F512GM48-DR; RoHS: Yes; Category: RF Receivers, Transceivers
footprint 48QFN-7mmx7mm (QFN, 48-Leads, Body 7.00x7.00mm, Pitch 0.50mm, Thermal Pad 4.70x4.70mm, IPC Medium Density)
part A pins: 9 RFVDD (power) "Radio power supply", 10 HFXTAL_N (in) "High Frequency Crystal input pin.", 11 HFXTAL_P (out) "High Frequency Crystal output pin.", 14 RFVSS (power) "Radio Ground", 15 PAVSS (power) "Power Amplifier (PA) voltage regulator VSS", 16 2G4RF_ION (io) "2.4 GHz Differential RF input/output,negative path. This pin should be externally grounded.", 17 2G4RF_IOP (io) "2.4 GHz Differential RF input/output, positive path.", 18 PAVDD (power) "Power Amplifier (PA) voltage regulator VDD input"
part B pins: 0 VSS "Ground", 12 RESETn "Reset input, active low. This pin is internally pulled up to AVDD. To apply an external reset source to this pin, it is required to only drive this pin low during reset, and let the internal pull-up ensure that reset is released.", 13 NC "No Connect.", 34 AVDD (power) "Analog power supply.", 37 VREGVSS "Voltage regulator VSS", 38 VREGSW (out) "DCDC regulator switching node", 39 VREGVDD (power) "Voltage regulator VDD input", 40 DVDD (power) "Digital power supply.", 41 DECOUPLE "Decouple output for on-chip voltage regulator. An external decoupling capacitor is required at this pin. This pin should not be used to power any external circuits.", 42 IOVDD (power) "Digital IO power supply."
part C pins: 1 PF0 (io) "GPIO", 2 PF1 (io) "GPIO", 3 PF2 (io) "GPIO", 4 PF3 (io) "GPIO", 5 PF4 (io) "GPIO", 6 PF5 (io) "GPIO", 7 PF6 (io) "GPIO", 8 PF7 (io) "GPIO", 19 PD10 (io) "GPIO", 20 PD11 (io) "GPIO", 21 PD12 (io) "GPIO", 22 PD13 (io) "GPIO", 23 PD14 (io) "GPIO", 24 PD15 (io) "GPIO", 25 PA0 (io) "GPIO", 26 PA1 (io) "GPIO", 27 PA2 (io) "GPIO", 28 PA3 (io) "GPIO", 29 PA4 (io) "GPIO", 30 PA5 (io) "GPIO", 31 PB11 (io) "GPIO", 32 PB12 (io) "GPIO", 33 PB13 (io) "GPIO", 35 PB14 (io) "GPIO", 36 PB15 (io) "GPIO", 43 PC6 (io) "GPIO", 44 PC7 (io) "GPIO", 45 PC8 (io) "GPIO", 46 PC9 (io) "GPIO", 47 PC10 (io) "GPIO", 48 PC11 (io) "GPIO"
part A text: RF Crystal; RF I/O; RF Analog Power; Ground; PA Power
part B text: Reset; DC/DC Regulator; Digital Supply; Digital Regulator; Analog Supply; Digital Logic; I/O Supply; Ground; Unused Pins
part C text: I/O Pins

## FB_600Ohm_0603_BLM18AG601SN1D
designator FB?, comment 600Ohm
0603 600Ω ±25% DCR=0.38Ω 500mA; Manufacturer: Murata; Manufacturer Part Number: BLM18AG601SN1D; Core Material: Ferrite; Material: Steel,Ferrite; Frequency: 100MHz; Impedance: 600R; Number of Lines: 1; DC Resistance (DCR): 380mR; Shielding: Unshielded; Supplier 1: Digi-Key; RoHS: Yes; Category: Inductors; Stock 1: 2587163; Pricing 1: 1=0.10000, 10=0.07600, 25=0.06880, 50=0.06180, 100=0.04540, 250=0.03300, 500=0.03026, 1000=0.02613 (USD); Case/Package: 0603; Number of Pins: 2; Case Code (Metric): 1608; Case Code (Imperial): 0603; Weight: 7.1E-05oz; Min Operating Temperature: -55°C; Max Operating Temperature: 125°C; Package Quantity: 1; Packaging: Tape and Reel; Tolerance: 25%; Max Current Rating: 500mA; Current Rating: 500mA; Termination: SMD/SMT; Max DC Current: 500mA; Test Frequency: 100MHz; DC Current: 500mA; Number of Circuits: 1; Length: 1.6mm; Width: 0.8mm; Height: 0.8mm; Depth: 0.8mm; Radiation Hardening: No; RoHS Compliant: Yes; Lead Free: Lead Free; REACH SVHC: No SVHC; Military Standard: Not; ComponentLink1URL: https://datasheet.ciiva.com/19460/1844766-19460213.pdf?src-supplier=Jameco; ComponentLink1Description: https://datasheet.ciiva.com/19460/1844766-19460213.pdf?src-supplier=Jameco; ComponentLink2URL: https://datasheet.ciiva.com/41449/001172228-da-01-en-drossel-0603-600r-1-6x0-8mm-4000st-41449517.pdf?src-supplier=Conrad; ComponentLink2Description: https://datasheet.ciiva.com/41449/001172228-da-01-en-drossel-0603-600r-1-6x0-8mm-4000st-41449517.pdf?src-supplier=Conrad; ComponentLink3URL: https://datasheet.ciiva.com/29347/442309-da-01-en-chip-drossel-0603-600r-500ma-1-6x0-8mm-29347900.pdf?src-supplier=Conrad; ComponentLink3Description: https://datasheet.ciiva.com/29347/442309-da-01-en-chip-drossel-0603-600r-500ma-1-6x0-8mm-29347900.pdf?src-supplier=Conrad; ComponentLink4URL: https://datasheet.ciiva.com/1466/1756147-1466934.pdf?src-supplier=Element14; ComponentLink4Description: https://datasheet.ciiva.com/1466/1756147-1466934.pdf?src-supplier=Element14; ComponentLink5URL: https://datasheet.ciiva.com/1466/1756147-1466933.pdf?src-supplier=Element14; ComponentLink5Description: https://datasheet.ciiva.com/1466/1756147-1466933.pdf?src-supplier=Element14; ComponentLink6URL: https://datasheet.ciiva.com/1012/l0110s0100blm18a-1012018.pdf?src-supplier=Digi-Key; ComponentLink6Description: https://datasheet.ciiva.com/1012/l0110s0100blm18a-1012018.pdf?src-supplier=Digi-Key; ComponentLink7URL: https://datasheet.ciiva.com/1012/l0110s0100blm18a-1012017.pdf?src-supplier=Digi-Key; ComponentLink7Description: https://datasheet.ciiva.com/1012/l0110s0100blm18a-1012017.pdf?src-supplier=Digi-Key; ComponentLink8URL: https://datasheet.ciiva.com/1012/l0110s0100blm18a-1012019.pdf?src-supplier=Digi-Key; ComponentLink8Description: https://datasheet.ciiva.com/1012/l0110s0100blm18a-1012019.pdf?src-supplier=Digi-Key; ComponentLink9URL: https://datasheet.ciiva.com/16210/l0110s0100blm18a-16210006.pdf?src-supplier=Future+Electronics; ComponentLink9Description: https://datasheet.ciiva.com/16210/l0110s0100blm18a-16210006.pdf?src-supplier=Future+Electronics; ComponentLink10URL: https://datasheet.ciiva.com/3081/l0110s0100blm18a-3081613.pdf?src-supplier=Avnet; ComponentLink10Description: https://datasheet.ciiva.com/3081/l0110s0100blm18a-3081613.pdf?src-supplier=Avnet
footprint FB_0603_MURATA (Chip Inductor, 2-Leads, Body 1.60x0.80mm, IPC Medium Density)
pins: 1, 2

## FB_0603_74279266
designator FB?
Ferrite Beads WE-CBF 0603 SMD Bead 100MHz 1000Ohm 200mA; Manufacturer: Wurth Electronics; Tolerance: 25%; Impedance: 1kR; DC Resistance (DCR): 600mR; Inductance: 1.8nH; Shielding: Unshielded; Number of Lines: 1; Supplier 1: Digi-Key; Manufacturer Part Number: 74279266; RoHS: Yes; Category: Ferrite Beads and Chips; Stock 1: 278379; Pricing 1: 1=0.18000, 50=0.17900, 100=0.16500, 500=0.15800, 1000=0.15000, 2000=0.14300 (USD); Case/Package: SMD/SMT; Case Code (Metric): 1608; Case Code (Imperial): 0603; Core Material: Ferrite; Min Operating Temperature: -55°C; Max Operating Temperature: 125°C; Packaging: Tape and Reel; Series: WE-CBF; Current Rating: 200mA; Max DC Current: 200mA; Termination: SMD/SMT; Test Frequency: 100MHz; Max Current Rating: 200mA; Length: 1.6mm; Width: 0.8mm; Height: 0.8mm; Depth: 0.8mm; REACH SVHC: Unknown; Lead Free: Lead Free; RoHS Compliant: Yes; ComponentLink1URL: https://datasheet.ciiva.com/23763/74279266-23763009.pdf?src-supplier=Newark; ComponentLink1Description: https://datasheet.ciiva.com/23763/74279266-23763009.pdf?src-supplier=Newark; ComponentLink2URL: https://datasheet.ciiva.com/11799/0900766b801ef1d0-11799352.pdf?src-supplier=RSComponents; ComponentLink2Description: https://datasheet.ciiva.com/11799/0900766b801ef1d0-11799352.pdf?src-supplier=RSComponents; ComponentLink3URL: https://datasheet.ciiva.com/12395/74279266-221135-12395453.pdf?src-supplier=Mouser; ComponentLink3Description: https://datasheet.ciiva.com/12395/74279266-221135-12395453.pdf?src-supplier=Mouser; ComponentLink4URL: https://datasheet.ciiva.com/14971/74279266-14971192.pdf?src-supplier=Digi-Key; ComponentLink4Description: https://datasheet.ciiva.com/14971/74279266-14971192.pdf?src-supplier=Digi-Key; ComponentLink5URL: https://datasheet.ciiva.com/14634/0900766b801ef1d0-14634816.pdf?src-supplier=Allied+Electronics; ComponentLink5Description: https://datasheet.ciiva.com/14634/0900766b801ef1d0-14634816.pdf?src-supplier=Allied+Electronics; ComponentLink6URL: https://datasheet.ciiva.com/1466/1705901-1466509.pdf?src-supplier=Element14; ComponentLink6Description: https://datasheet.ciiva.com/1466/1705901-1466509.pdf?src-supplier=Element14; ComponentLink7URL: https://datasheet.ciiva.com/22711/1705901-22711422.pdf?src-supplier=Element14; ComponentLink7Description: https://datasheet.ciiva.com/22711/1705901-22711422.pdf?src-supplier=Element14; ComponentLink8URL: https://datasheet.ciiva.com/48698/001087059-da-01-ml-we-cbf-smd-ferrit-74279266-de-en-48698427.pdf?src-supplier=Conrad; ComponentLink8Description: https://datasheet.ciiva.com/48698/001087059-da-01-ml-we-cbf-smd-ferrit-74279266-de-en-48698427.pdf?src-supplier=Conrad
footprint FB_WURTH_INDC1608X10N (Chip Inductor, 2-Leads, Body 1.60x0.80mm, IPC Medium Density)
pins: 1, 2

## HEADER_2_PIN
designator H?
2 Pin through Hole Header
footprint 2PIN_HEADER
pins: 1, 2

## HEADER_3_PIN
designator H?, comment 3 Pin Header
footprint 3PIN_HEADER
pins: 1, 2, 3

## HEADER_4_PIN
designator H?, comment 4 Pin Header
footprint 4PIN_HEADER
pins: 1, 2, 3, 4

## HEADER_5_PIN
designator H?, comment 5 Pin Header
footprint 5PIN_HEADER
pins: 1, 2, 3, 4, 5

## HOLE_#4
designator HOLE?, comment #4 Hole  (no BOM)
footprint HOLE_#4
pins: 1

## JP_BATT_S2B-PH-K-S(LF)(SN)
designator JP?, comment Battery
Conn Shrouded Header HDR 2 POS 2mm Solder RA Thru-Hole Box; Manufacturer: JST; Manufacturer Part Number: S2B-PH-K-S(LF)(SN); Contact Resistance: 20mR; Max Current Rating: 2A; Voltage Rating: 100V; Number of Poles: 2; Insulation Resistance: 1GR; Gender: Male; Connector Type: Male Pin; Supplier 1: Digi-Key; RoHS: Yes; Category: Headers and Wire Housings; Stock 1: 360814; Pricing 1: 1=0.17000, 10=0.13400, 100=0.09910, 500=0.08202, 1000=0.07177, 5000=0.06152, 10000=0.05981 (USD); Mount: Through Hole; Number of Pins: 2; Contact Material: Tin,Brass,Bronze; Contact Plating: Tin,Copper; Color: Natural,White; Housing Color: White; Housing Material: Polyamide; Min Operating Temperature: -25°C; Max Operating Temperature: 85°C; Number of Rows: 1; Current Rating: 2A; Voltage Rating (AC): 100V; Packaging: Bulk; Number of Positions: 2; Termination: Solder; Fastening Type: Detent; Number of Contacts: 2; Max Voltage Rating (AC): 100V; Max Voltage Rating (DC): 100V; Working Voltage: 100V; Orientation: Right Angle; Series: PH; Contact Type: Male Pin; Length: 5.9mm; Width: 4.5mm; Height: 9.4mm; Lead Pitch: 2mm; Pitch: 2mm; Contact Mating Length: 0.13inch; Depth: 7.6mm; REACH SVHC: No SVHC; Lead Free: Lead Free; Flammability Rating: UL94 V-0; ComponentLink1URL: https://datasheet.ciiva.com/11747/0900766b8082f558-11747128.pdf?src-supplier=RSComponents; ComponentLink1Description: https://datasheet.ciiva.com/11747/0900766b8082f558-11747128.pdf?src-supplier=RSComponents; ComponentLink2URL: https://datasheet.ciiva.com/16484/s2b-ph-k-slfsn-16484405.pdf?src-supplier=Future+Electronics; ComponentLink2Description: https://datasheet.ciiva.com/16484/s2b-ph-k-slfsn-16484405.pdf?src-supplier=Future+Electronics; ComponentLink3URL: https://datasheet.ciiva.com/26894/getdatasheetpartid-641020-26894599.pdf?src-supplier=Verical; ComponentLink3Description: https://datasheet.ciiva.com/26894/getdatasheetpartid-641020-26894599.pdf?src-supplier=Verical; ComponentLink4URL: https://datasheet.ciiva.com/712/eph-712447.pdf?src-supplier=Digi-Key; ComponentLink4Description: https://datasheet.ciiva.com/712/eph-712447.pdf?src-supplier=Digi-Key; ComponentLink5URL: https://datasheet.ciiva.com/8052/80564-8052207.pdf?src-supplier=Element14; ComponentLink5Description: https://datasheet.ciiva.com/8052/80564-8052207.pdf?src-supplier=Element14
footprint JST_S2B-PH-K-S(LF)(SN)
pins: 1 VDD, 2 VSS

## L_4.7uH_0805_0805CT-472EJFS
designator L?, comment 4.7uH
Fixed Ind 4.7UH 400MA 1.9 Ohm; Manufacturer: Delta; Manufacturer Part Number: 0805CT-472EJFS; Supplier 1: Digi-Key; Stock 1: 4887; Pricing 1: 1=0.33000, 10=0.26500, 25=0.22320, 50=0.19640, 100=0.17570, 250=0.15296, 500=0.13850, 1000=0.11783 (USD)
footprint IND_0805
pins: 1, 2

## L_4.7uH_1212_LQH3NPN4R7MMEL
designator L?, comment 4.7uH
Ind Power Chip Shielded Wirewound 4.7uH 20% 1MHz Ferrite 1.7A 1212 Emboss T/R; Manufacturer: Murata; Manufacturer Part Number: LQH3NPN4R7MMEL; Current Rating: 1A; Saturation Current: 1.3A; DC Resistance (DCR): 120mR; Self Resonant Frequency: 40MHz; Supplier 1: Digi-Key; RoHS: Yes; Category: Fixed Inductors; Stock 1: 120695; Pricing 1: 1=0.34000, 10=0.30600, 25=0.26760, 50=0.22940, 100=0.21020, 250=0.19112, 500=0.17964, 1000=0.13759 (USD); Mount: Surface Mount; Case/Package: 1212; Core Material: Ferrite; Case Code (Imperial): 1212; Case Code (Metric): 3030; Min Operating Temperature: -40°C; Max Operating Temperature: 105°C; Resistor Type: Wirewound; Packaging: Cut Tape; Inductance: 4.7uH; Tolerance: 20%; Shielding: Shielded; Test Frequency: 1MHz; RoHS Compliant: Yes; ComponentLink1URL: http://search.murata.co.jp/Ceramy/image/img/P02/JELF243A-0153.pdf?src-supplier=Digi-Key; ComponentLink1Description: http://search.murata.co.jp/Ceramy/image/img/P02/JELF243A-0153.pdf?src-supplier=Digi-Key
footprint IND_MURATA_INDP3030X15N (Precision Wire Wound Inductor, 2-Leads, Body 3.00x3.00mm, IPC Medium Density)
pins: 1, 2

## L_10uH_74479887310A
designator L?, comment 10uH
FIXED IND 10UH 850MA 300 MOHM / WE-PMI Power Multilayer Inductor; Manufacturer: Wurth Electronics; Manufacturer Part Number: 74479887310A; Core Material: Ferrite; Tolerance: 20%; DC Resistance (DCR): 300mR; Test Frequency: 1MHz; Self Resonant Frequency: 20MHz; Shielding: Shielded; Saturation Current: 125mA; Q Factor: 27; Supplier 1: Digi-Key; RoHS: Yes; Category: Fixed Inductors; Stock 1: 31414; Pricing 1: 1=1.28000, 10=1.25800, 50=1.13600, 100=1.09600, 500=1.01500, 1000=0.93400 (USD); Mount: Surface Mount; Case/Package: SMD/SMT; Case Code (Metric): 2520; Case Code (Imperial): 1008; Min Operating Temperature: -40°C; Max Operating Temperature: 125°C; Packaging: Tape and Reel; Package Quantity: 3000; Current Rating: 850mA; Max DC Current: 850mA; Termination: SMD/SMT; Resistance: 300MR; Inductance: 10uH; Inductance Tolerance: 20%; Length: 2.5mm; Width: 2mm; Height: 1mm; Height - Seated (Max): 0.039inch; REACH SVHC: Unknown; RoHS Compliant: Yes; Lead Free: Lead Free; ComponentLink1URL: https://datasheet.ciiva.com/16393/74479887310a-247809-16393771.pdf?src-supplier=Mouser; ComponentLink1Description: https://datasheet.ciiva.com/16393/74479887310a-247809-16393771.pdf?src-supplier=Mouser; ComponentLink2URL: https://datasheet.ciiva.com/18686/74479887310a-18686379.pdf?src-supplier=Digi-Key; ComponentLink2Description: https://datasheet.ciiva.com/18686/74479887310a-18686379.pdf?src-supplier=Digi-Key; ComponentLink3URL: https://datasheet.ciiva.com/18686/74479887310a-18686380.pdf?src-supplier=Digi-Key; ComponentLink3Description: https://datasheet.ciiva.com/18686/74479887310a-18686380.pdf?src-supplier=Digi-Key; ComponentLink4URL: https://datasheet.ciiva.com/18686/74479887310a-18686381.pdf?src-supplier=Digi-Key; ComponentLink4Description: https://datasheet.ciiva.com/18686/74479887310a-18686381.pdf?src-supplier=Digi-Key
footprint IND_SM127P600-8N (FIXED IND 10UH 850MA 300MOHM SMD)
pins: 1, 2